# EAGLE library part ESP32_S3_MINI (library ESP32_S3_MINI)
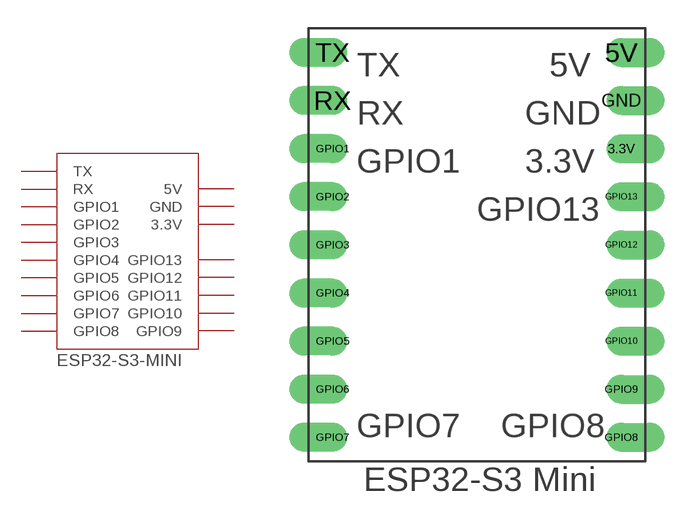
[diagram p0: symbol with the pads of ESP32_S3_MINI; footprint ESP32_S3_MINI]

Designator prefix -

## ESP32_S3_MINI  [ESP32_S3_MINI]
3.3V  3.3V  pwr
5V  5V  pwr
GND  GND  pwr
GPIO1  GPIO1
GPIO2  GPIO2
GPIO3  GPIO3
GPIO4  GPIO4
GPIO5  GPIO5
GPIO6  GPIO6
GPIO7  GPIO7
GPIO8  GPIO8
GPIO9  GPIO9
GPIO10  GPIO10
GPIO11  GPIO11
GPIO12  GPIO12
GPIO13  GPIO13
RX  RX
TX  TX

## Footprint ESP32_S3_MINI (pad centres in mm)
drill 1.016 pad 1.27 offset: 3.3V 7.62,5.08; 5V 7.62,10.16; GND 7.62,7.62; GPIO1 -7.62,5.08; GPIO2 -7.62,2.54; GPIO3 -7.62,0; GPIO4 -7.62,-2.54; GPIO5 -7.62,-5.08; GPIO6 -7.62,-7.62; GPIO7 -7.62,-10.16; GPIO8 7.62,-10.16; GPIO9 7.62,-7.62; GPIO10 7.62,-5.08; GPIO11 7.62,-2.54; GPIO12 7.62,0; GPIO13 7.62,2.54; RX -7.62,7.62; TX -7.62,10.16